# Altium footprint library NVMTS0D4N04CLTXG.PcbLib: 1 footprints
Each footprint in its own frame and in the unit in brackets; x right, y up, seen from the top. Pads: shape width x height; smd on the part's side, far side on the other; paste and mask are expansions set on the pad; w line width, h text height; cw(c..) or ccw(c..) is an arc to the next point about the centre after c.
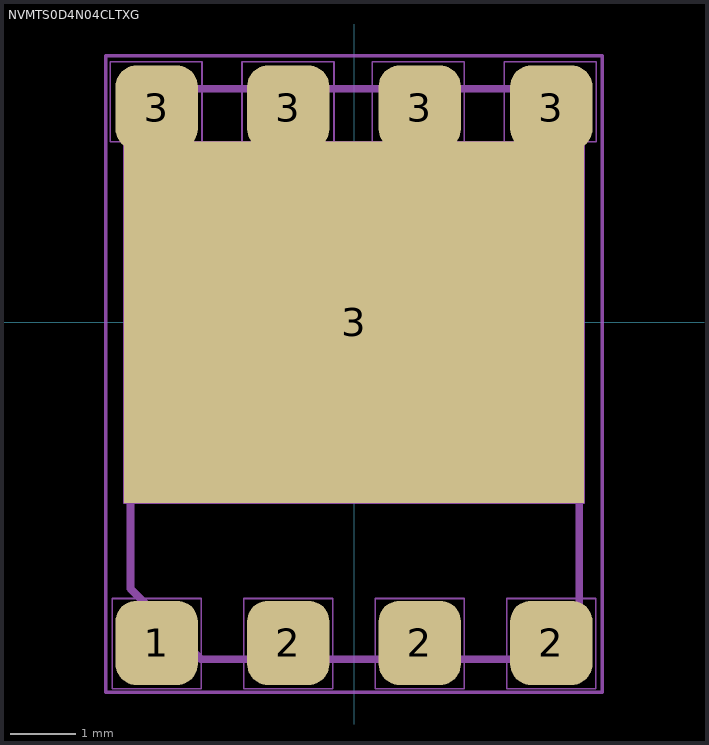
[diagram p0: the footprint, top view; thin cyan lines are the x and y axes]

## NVMTS0D4N04CLTXG [mm]
pads (9):
  rrect50% 1.25x1.28 smd: 1(-3,-4.875) 2(-1,-4.875) 2(1,-4.875) 2(3,-4.875) 3(-3,3.262) 3(-1,3.262) 3(1,3.262) 3(3,3.262)
  rect 7x5.5 smd: 3(0,0)
Mechanical 3:
  lines w0.12: -3.4,-4.05 -3.4,3.55 3.425,3.55 3.425,-5.125 -2.325,-5.125 -3.4,-4.05
Mechanical 5:
  lines w0.025: -2.311,2.743 -2.311,3.962 -3.708,3.962 -3.708,2.743 -3.5,2.743 ; -1.702,2.743 -1.702,3.962 -0.305,3.962 -0.305,2.743 ; 0.279,2.743 0.279,3.962 1.676,3.962 1.676,2.743 ; -3.5,2.743 -3.5,-2.75 3.5,-2.75 3.5,2.743 -3.5,2.743 ; -3.675,-5.575 -2.325,-5.575 -2.325,-4.2 -3.675,-4.2 -3.675,-5.575 ; -1.675,-5.575 -0.325,-5.575 -0.325,-4.2 -1.675,-4.2 -1.675,-5.575 ; 0.325,-5.575 1.675,-5.575 1.675,-4.2 0.325,-4.2 0.325,-5.575 ; 2.286,2.743 2.286,3.962 3.683,3.962 3.683,2.743 2.286,2.743 ; 2.325,-5.575 2.325,-4.2 3.675,-4.2 3.675,-5.575 2.325,-5.575
Mechanical 7:
  lines w0.05: -3.775,-5.625 -3.775,4.05 3.775,4.05 3.775,-5.625 -3.775,-5.625
Mechanical 9:
  text "'.Designator'" at -5.825,-0.35 h1.02
3D body "NVMTS0D4N04CLTXG.stp": height 1.3, standoff 0, extent -4,-5.42 4,3.77
3D body: height 1.04, standoff 0, extent -3.775,-5.625 3.775,4.05